# EAGLE library part AB-RTCMC-32.768KHZ-B5ZE-S3-T (library RTC)
IC RTC CLK/CALENDAR I2C MODULE Manufacturer's datasheet <https://abracon.com/realtimeclock/AB-RTCMC-32.768kHz-B5ZE-S3.pdf>
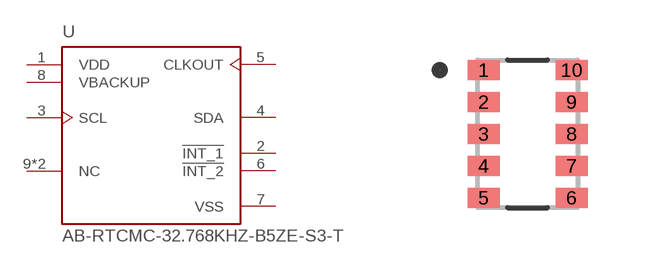
[diagram p7: symbol with the pads of AB-RTCMC-32.768KHZ-B5ZE-S3-T; footprint AB-RTCMC-32.768KHZ-B5ZE-S3-T]

Designator prefix U

## AB-RTCMC-32.768KHZ-B5ZE-S3-T (CREATED_BY: PCBLayout.com; DIGIKEY_PARTNO: 535-12054-1-ND; MANUFACTURER: Abracon LLC; MPN: AB-RTCMC-32.768KHZ-B5ZE-S3-T; PACKAGE: 10-SMD MODULE)  [AB-RTCMC-32.768KHZ-B5ZE-S3-T]
1  VDD  pwr
2  !INT_1  out
3  SCL  in
4  SDA
5  CLKOUT  out
6  !INT_2  out
7  VSS  pwr
8  VBACKUP  pwr
9  NC  pas
10  NC  pas

## Footprint AB-RTCMC-32.768KHZ-B5ZE-S3-T (pad centres in mm)
smd 0.8 x 0.5: 1 -1.1,1.6; 2 -1.1,0.8; 3 -1.1,0; 4 -1.1,-0.8; 5 -1.1,-1.6; 6 1.1,-1.6; 7 1.1,-0.8; 8 1.1,0; 9 1.1,0.8; 10 1.1,1.6